# EAGLE library part PINHD-1X6-OFF (library Calliope)
PIN HEADER
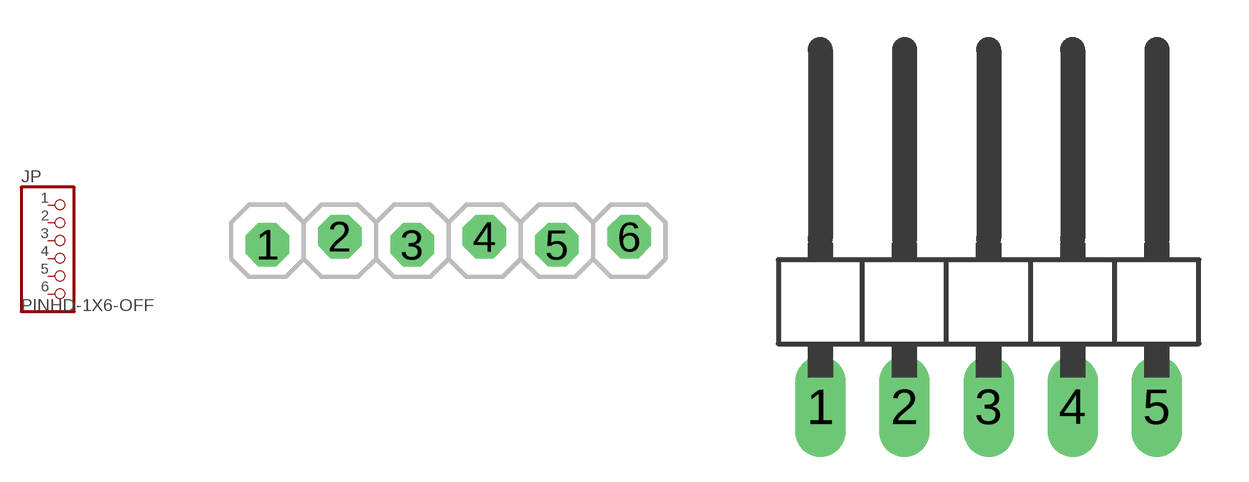
[diagram p0: symbol with the pads of 1X06-OFF; footprints 1X06-OFF, 1X06-OFF/90]

Designator prefix JP

## PINHD-1X6-OFF  [1X06-OFF]
1  1  pas
2  2  pas
3  3  pas
4  4  pas
5  5  pas
6  6  pas

## PINHD-1X6-OFF/90  [1X06-OFF/90]
1  1  pas
2  2  pas
3  3  pas
4  4  pas
5  5  pas

## Footprint 1X06-OFF (pad centres in mm)
PIN HEADER
drill 1.016 octagon: 1 -6.35,-0.14; 2 -3.81,0.14; 3 -1.27,-0.14; 4 1.27,0.14; 5 3.81,-0.14; 6 6.35,0.14

## Footprint 1X06-OFF/90 (pad centres in mm)
PIN HEADER
drill 1.016 long: 1 -5.08,-3.81; 2 -2.54,-3.81; 3 0,-3.81; 4 2.54,-3.81; 5 5.08,-3.81